# Altium footprint library PROC051C_PCB.PcbLib: 65 footprints (part 4 of 5)
Each footprint in its own frame and in the unit in brackets; x right, y up, seen from the top. Pads: shape width x height; smd on the part's side, far side on the other; paste and mask are expansions set on the pad; w line width, h text height; cw(c..) or ccw(c..) is an arc to the next point about the centre after c.
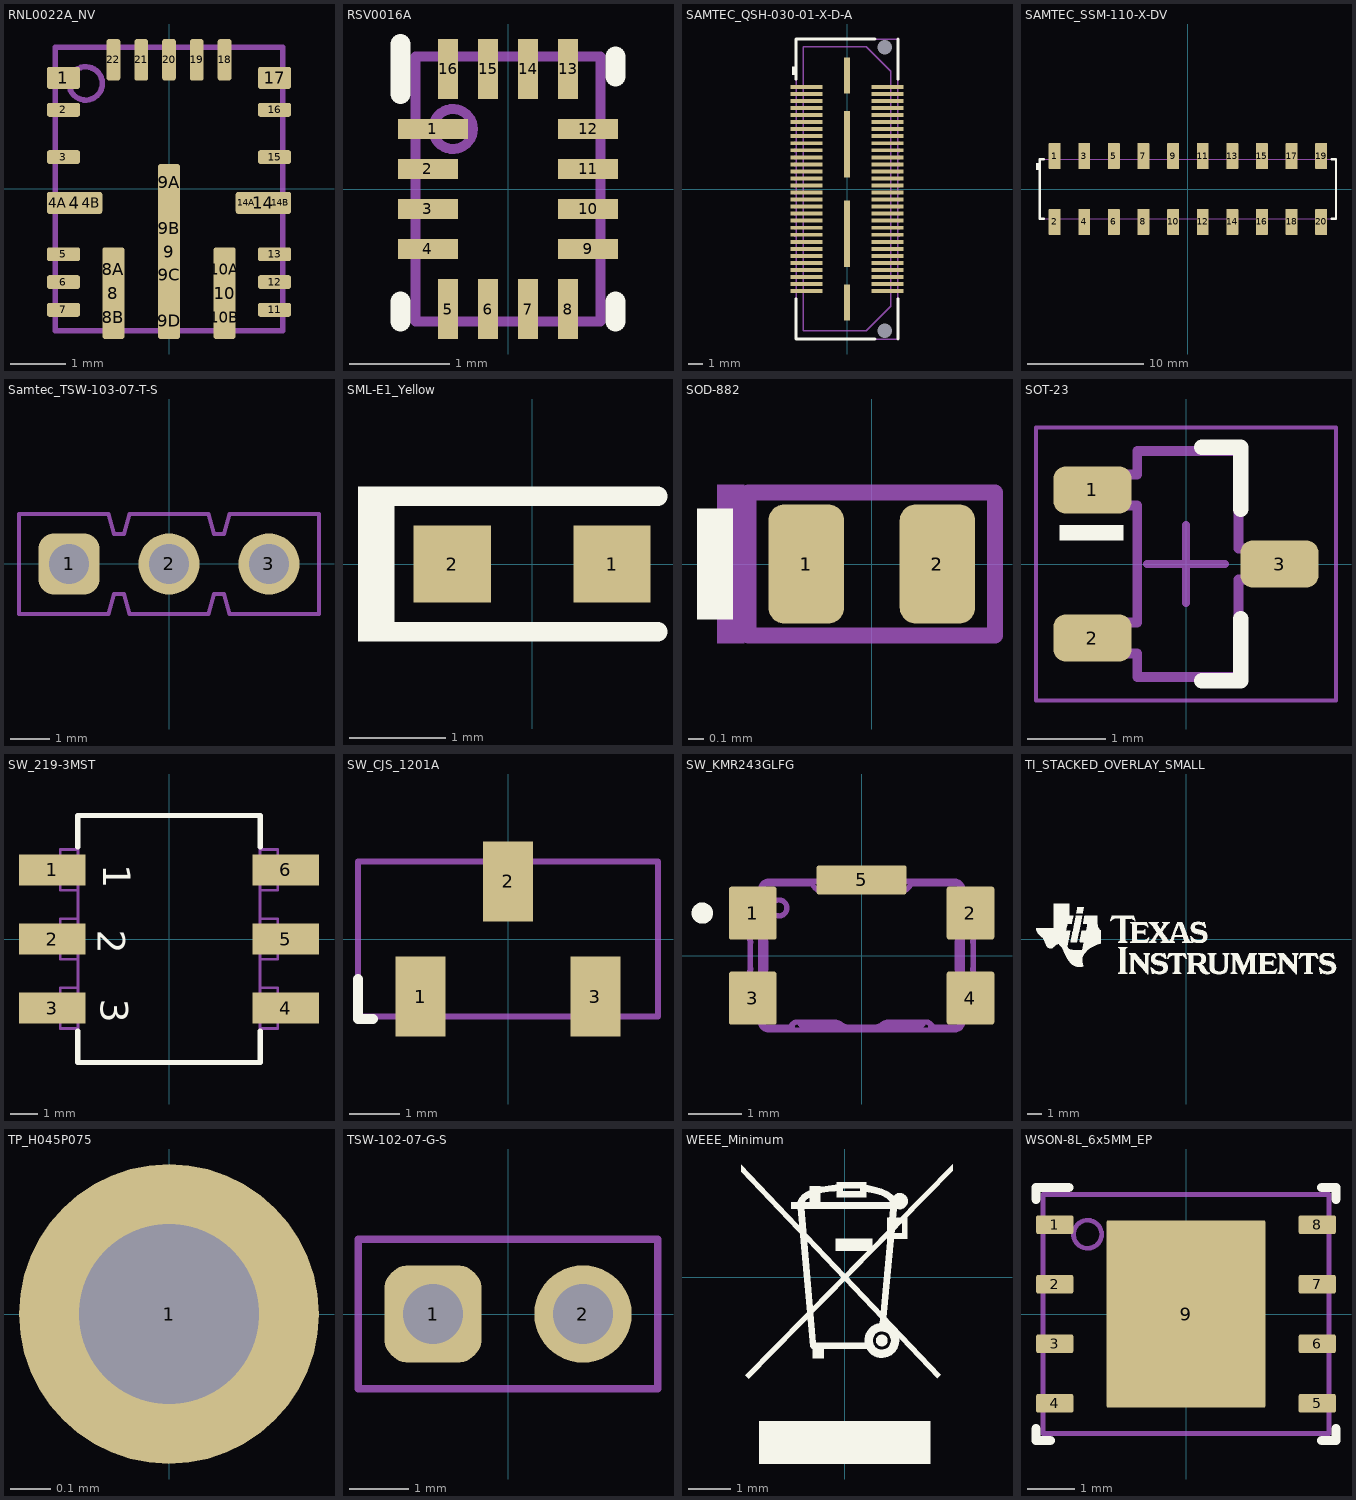
[diagram p3: the footprints below, top view; thin cyan lines are the x and y axes]

## RNL0022A_NV [mm] "VQFN-HR-22"
height 0.9
pads (34):
  rrect25% 0.6x0.4 smd: 1(-1.9,2) 17(1.9,2)
  rrect40% 0.6x0.25 smd: 2(-1.9,1.425) 3(-1.9,0.575) 5(-1.9,-1.175) 6(-1.9,-1.675) 7(-1.9,-2.175) 11(1.9,-2.175) 12(1.9,-1.675) 13(1.9,-1.175) 15(1.9,0.575) 16(1.9,1.425)
  rrect25% 1x0.4 smd paste-0.25: 4(-1.7,-0.25) 14(1.7,-0.25)
  rrect50% 0.4x0.4 on Top Paste: 4A(-2,-0.25) 4B(-1.4,-0.25) 14A(1.4,-0.25) 14B(2,-0.25)
  rrect25% 0.4x1.65 smd paste-0.25: 8(-1,-1.875) 10(1,-1.875)
  rrect50% 0.4x0.66 on Top Paste: 8A(-1,-1.445) 8B(-1,-2.305) 10A(1,-1.445) 10B(1,-2.305)
  rrect25% 0.4x3.15 smd paste-0.25: 9(0,-1.125)
  rrect50% 0.4x0.63 on Top Paste: 9A(0,0.12) 9B(0,-0.71) 9C(0,-1.54) 9D(0,-2.37)
  rrect40% 0.25x0.75 smd: 18(1,2.325) 19(0.5,2.325) 20(0,2.325) 21(-0.5,2.325) 22(-1,2.325)
Mechanical 5:
  circle w0.1: c-1.5,1.9 r0.3
  lines w0.1: -2.05,-2.55 2.05,-2.55 2.05,2.55 -2.05,2.55 -2.05,-2.55
  text ".Designator" at 0.692,0.589 h1.02
3D body "RNL0022A.stp": height 0.9, standoff 0, extent -2,-2.5 2,2.5

## RSV0016A [mm] "QFN, 16-Leads, Body 1.8x2.6mm, Pitch 0.4mm, TI Recommended"
height 0.55
pads (16):
  rect 0.7x0.2 smd: 1(-0.75,0.6)
  rect 0.6x0.2 smd: 2(-0.8,0.2) 3(-0.8,-0.2) 4(-0.8,-0.6) 9(0.8,-0.6) 10(0.8,-0.2) 11(0.8,0.2) 12(0.8,0.6)
  rect 0.2x0.6 smd: 5(-0.6,-1.2) 6(-0.2,-1.2) 7(0.2,-1.2) 8(0.6,-1.2) 13(0.6,1.2) 14(0.2,1.2) 15(-0.2,1.2) 16(-0.6,1.2)
Top Overlay:
  lines w0.2: -1.075,-1.325 -1.075,-1.125 ; -1.075,0.95 -1.075,1.45 ; 1.075,-1.325 1.075,-1.125 ; 1.075,1.125 1.075,1.325
Mechanical 5:
  circle w0.1: c-0.55,0.6 r0.2
  lines w0.1: -0.925,-1.325 0.925,-1.325 0.925,1.325 -0.925,1.325 -0.925,-1.325
  text ".Designator" at 0.559,-0.737 h0.38
3D body: height 0.55, standoff 0, extent -0.925,-1.325 0.925,1.325
3D body: height 0.56, standoff 0.4, extent -0.749,0.401 -0.351,0.799

## SAMTEC_QSH-030-01-X-D-A [mm] "Receptacle, 0.5 mm, 30x2, TH"
height 3.327
pads (66):
  rect 2.27x0.279 smd: 1(-2.865,7.25) 2(2.865,7.25) 3(-2.865,6.75) 4(2.865,6.75) 5(-2.865,6.25) 6(2.865,6.25) 7(-2.865,5.75) 8(2.865,5.75) 9(-2.865,5.25) 10(2.865,5.25) 11(-2.865,4.75) 12(2.865,4.75) 13(-2.865,4.25) 14(2.865,4.25) 15(-2.865,3.75) 16(2.865,3.75) 17(-2.865,3.25) 18(2.865,3.25) 19(-2.865,2.75) 20(2.865,2.75) 21(-2.865,2.25) 22(2.865,2.25) 23(-2.865,1.75) 24(2.865,1.75) 25(-2.865,1.25) 26(2.865,1.25) 27(-2.865,0.75) 28(2.865,0.75) 29(-2.865,0.25) 30(2.865,0.25) 31(-2.865,-0.25) 32(2.865,-0.25) 33(-2.865,-0.75) 34(2.865,-0.75) 35(-2.865,-1.25) 36(2.865,-1.25) 37(-2.865,-1.75) 38(2.865,-1.75) 39(-2.865,-2.25) 40(2.865,-2.25) 41(-2.865,-2.75) 42(2.865,-2.75) 43(-2.865,-3.25) 44(2.865,-3.25) 45(-2.865,-3.75) 46(2.865,-3.75) 47(-2.865,-4.25) 48(2.865,-4.25) 49(-2.865,-4.75) 50(2.865,-4.75) 51(-2.865,-5.25) 52(2.865,-5.25) 53(-2.865,-5.75) 54(2.865,-5.75) 55(-2.865,-6.25) 56(2.865,-6.25) 57(-2.865,-6.75) 58(2.865,-6.75) 59(-2.865,-7.25) 60(2.865,-7.25)
  round 0 hole 1.02 unplated mask+0.127: MH1(2.67,10.065) MH2(2.67,-10.065)
  rect 0.43x2.54 smd: MP1(0,8.065) MP4(0,-8.065)
  rect 0.43x4.7 smd: MP2(0,3.175) MP3(0,-3.175)
Top Overlay:
  rectangle: -3.9,8.1 -3.62,8.7
  lines w0.2: -3.62,-7.789 -3.62,-10.655 2,-10.655 ; -3.62,7.789 -3.62,10.655 2,10.655 ; 3.62,-10.655 3.62,-7.789 ; 3.62,7.789 3.62,10.655
Mechanical 5:
  drawing of 190 lines, arcs and shapes, not listed
  text ".Designator" at 0.464,-0.829 h1.02
3D body "Samtec-QSH-030-01-L-D-A.stp": height 3.25, standoff -0.75, extent -3.746,-10.636 3.747,10.674

## SAMTEC_SSM-110-X-DV [mm] "Receptacle, 2.54mm, 10x2, SMT"
height 7.47
pads (20):
  rrect10% 1.02x2.22 smd: 1(-11.43,2.825) 2(-11.43,-2.825) 3(-8.89,2.825) 4(-8.89,-2.825) 5(-6.35,2.825) 6(-6.35,-2.825) 7(-3.81,2.825) 8(-3.81,-2.825) 9(-1.27,2.825) 10(-1.27,-2.825) 11(1.27,2.825) 12(1.27,-2.825) 13(3.81,2.825) 14(3.81,-2.825) 15(6.35,2.825) 16(6.35,-2.825) 17(8.89,2.825) 18(8.89,-2.825) 19(11.43,2.825) 20(11.43,-2.825)
Top Overlay:
  rectangle: -13.025,1.625 -12.675,2.225
  lines w0.2: -12.34,-2.54 -12.7,-2.54 -12.7,2.54 -12.34,2.54 ; 12.34,-2.54 12.7,-2.54 12.7,2.54 12.34,2.54
Mechanical 5:
  lines w0.1: -11.684,-2.54 -11.684,-3.518 -11.176,-3.518 -11.176,-2.54 ; -11.684,2.54 -11.684,3.518 -11.176,3.518 -11.176,2.54 ; -9.144,-2.54 -9.144,-3.518 -8.636,-3.518 -8.636,-2.54 ; -9.144,2.54 -9.144,3.518 -8.636,3.518 -8.636,2.54 ; -6.604,-2.54 -6.604,-3.518 -6.096,-3.518 -6.096,-2.54 ; -6.604,2.54 -6.604,3.518 -6.096,3.518 -6.096,2.54 ; -4.064,-2.54 -4.064,-3.518 -3.556,-3.518 -3.556,-2.54 ; -4.064,2.54 -4.064,3.518 -3.556,3.518 -3.556,2.54 ; -1.524,-2.54 -1.524,-3.518 -1.016,-3.518 -1.016,-2.54 ; -1.524,2.54 -1.524,3.518 -1.016,3.518 -1.016,2.54 ; 1.016,-2.54 1.016,-3.518 1.524,-3.518 1.524,-2.54 ; 1.016,2.54 1.016,3.518 1.524,3.518 1.524,2.54 ; 3.556,-2.54 3.556,-3.518 4.064,-3.518 4.064,-2.54 ; 3.556,2.54 3.556,3.518 4.064,3.518 4.064,2.54 ; 6.096,-2.54 6.096,-3.518 6.604,-3.518 6.604,-2.54 ; 6.096,2.54 6.096,3.518 6.604,3.518 6.604,2.54 ; 8.636,-2.54 8.636,-3.518 9.144,-3.518 9.144,-2.54 ; 8.636,2.54 8.636,3.518 9.144,3.518 9.144,2.54 ; 11.176,-2.54 11.176,-3.518 11.684,-3.518 11.684,-2.54 ; 11.176,2.54 11.176,3.518 11.684,3.518 11.684,2.54 ; -12.7,-2.54 -12.7,2.54 12.7,2.54 12.7,-2.54 -12.7,-2.54
  text ".Designator" at -0.47,0.14 h1.02
3D body "SSM-110-S-DV.stp": height 7.42, standoff 0, extent -12.7,-3.518 12.7,3.518

## Samtec_TSW-103-07-T-S [mm] "Header, 2.54 mm, 3x1, TH"
height 8.64
pads (3):
  rrect50% 1.55x1.55 hole 1.02: 1(-2.54,0)
  round 1.55 hole 1.02: 2(0,0) 3(2.54,0)
Mechanical 5:
  lines w0.1: -3.81,-1.27 -3.81,1.27 -1.534,1.27 -1.397,0.762 -1.27,0.762 -1.143,0.762 -1.006,1.27 1.006,1.27 1.143,0.762 1.27,0.762 1.397,0.762 1.534,1.27 3.81,1.27 3.81,-1.27 1.534,-1.27 1.397,-0.762 1.27,-0.762 1.143,-0.762 1.006,-1.27 -1.006,-1.27 -1.143,-0.762 -1.27,-0.762 -1.397,-0.762 -1.534,-1.27 -3.81,-1.27
  text ".Designator" at 0.637,0.475 h1.02
3D body "TSW-103-07-T-S.stp": height 8.39, standoff -2.53, extent -3.81,-1.27 3.81,1.27

## SML-E1_Yellow [mm] "SMD, 2-Leads, Body 1.6x0.8mm"
height 0.46
pads (2):
  rect 0.8x0.8 smd: 1(0.825,0) 2(-0.825,0)
Top Overlay:
  rectangle: -1.8,-0.8 -1.525,0.8
  lines w0.2: 1.3,-0.7 -1.525,-0.7 -1.525,0.7 1.3,0.7
Mechanical 5:
  rectangle: -1.8,-0.75 -1.525,0.75
  lines w0.1: 1.3,-0.7 -1.525,-0.7 -1.525,0.7 1.3,0.7
  text ".Designator" at -1,-0.2 h0.51
3D body: height 0.13, standoff 0, extent -0.85,-0.45 0.85,0.45
3D body: height 0.46, standoff 0.13, extent -0.5,-0.45 0.5,0.45
3D body: height 0, standoff -0.01, extent -0.2,-0.2 0.2,0.2

## SOD-882 [mm] "Skyworks"
height 0.5
pads (4):
  rrect42% 0.475x0.75 smd mask-3: 1(-0.412,0) 2(0.412,0)
  rrect50% 0.475x0.75 on Top Solder mask-3: 1(-0.412,0) 2(0.412,0)
Top Overlay:
  rectangle: -1.1,-0.35 -0.875,0.35
Mechanical 5:
  rectangle: -0.975,-0.5 -0.8,0.5
  lines w0.1: -0.775,-0.45 0.775,-0.45 0.775,0.45 -0.775,0.45 -0.775,-0.45
  text ".Designator" at -0.575,-0.15 h0.3
3D body: height 0.5, standoff 0, extent -0.5,-0.3 0.5,0.3
3D body: height 0.5, standoff 0.5, extent -0.406,-0.2 -0.3,0.2

## SOT-23 [mm] "SOT23, 3-Leads, Body 2.9x1.3mm, Pitch 0.95mm, Lead Span 2.5mm, IPC Medium Density"
height 1.1
pads (3):
  rrect50% 1x0.6 smd: 1(-1.2,0.95) 2(-1.2,-0.95) 3(1.2,0)
Top Overlay:
  rectangle: -1.625,0.3 -0.8,0.5
  lines w0.2: 0.2,-1.5 0.7,-1.5 0.7,-0.7 ; 0.2,1.5 0.7,1.5 0.7,0.7
Mechanical 5:
  lines w0.127: -1.16,-1.15 -1.16,-0.75 -0.625,-0.75 -0.625,0.75 -1.16,0.75 -1.16,1.15 -0.625,1.15 -0.625,1.45 0.675,1.45 0.675,0.2 1.21,0.2 1.21,-0.2 0.675,-0.2 0.675,-1.45 -0.625,-1.45 -0.625,-1.15 -1.16,-1.15
  text ".Designator" at -0.321,0.529 h0.64
Mechanical 15:
  lines w0.05: -1.925,-1.75 1.925,-1.75 1.925,1.75 -1.925,1.75 -1.925,-1.75
  lines w0.1: -0.5,0 0.5,0 ; 0,-0.5 0,0.5
3D body "SW3dPS-sot-3p290x130ll237h100.STEP": height 1, standoff 0, extent -1.16,-1.45 1.21,1.45

## SW_219-3MST [mm] "SMD, 6-Leads, Body 6.7x9.09mm, Pitch 2.54mm"
height 4.23
pads (6):
  rect 2.44x1.13 smd: 1(-4.3,2.54) 2(-4.3,0) 3(-4.3,-2.54) 4(4.3,-2.54) 5(4.3,0) 6(4.3,2.54)
Top Overlay:
  lines w0.2: -3.35,-3.4 -3.35,-4.545 3.35,-4.545 3.35,-3.4 ; -3.35,3.4 -3.35,4.545 3.35,4.545 3.35,3.4
  text "3" at -2.504,-2.204 h1.02
  text "2" at -2.63,0.336 h1.02
  text "1" at -2.422,2.758 h1.02
Mechanical 5:
  lines w0.1: -4,-2.815 -4.955,-2.815 -4.955,-2.265 -4,-2.265 ; -4,-0.275 -4.955,-0.275 -4.955,0.275 -4,0.275 ; -4,2.265 -4.955,2.265 -4.955,2.815 -4,2.815 ; -3.35,-3.29 -3.8,-3.29 -4,-3.29 -4,-1.79 -3.8,-1.79 -3.35,-1.79 ; -3.35,-0.75 -3.8,-0.75 -4,-0.75 -4,0.75 -3.8,0.75 -3.35,0.75 ; -3.35,1.79 -3.8,1.79 -4,1.79 -4,3.29 -3.8,3.29 -3.35,3.29 ; 3.35,-3.29 3.8,-3.29 4,-3.29 4,-1.79 3.8,-1.79 3.35,-1.79 ; 3.35,-0.75 3.8,-0.75 4,-0.75 4,0.75 3.8,0.75 3.35,0.75 ; 3.35,1.79 3.8,1.79 4,1.79 4,3.29 3.8,3.29 3.35,3.29 ; 4,-2.815 4.955,-2.815 4.955,-2.265 4,-2.265 ; 4,-0.275 4.955,-0.275 4.955,0.275 4,0.275 ; 4,2.265 4.955,2.265 4.955,2.815 4,2.815 ; -3.35,-4.545 3.35,-4.545 3.35,-3.545 3.35,4.545 -3.35,4.545 -3.35,-4.545
  text "1" at -2.422,2.758 h1.02
  text "2" at -2.63,0.336 h1.02
  text "3" at -2.504,-2.204 h1.02
  text ".Designator" at -0.52,1.29 h1.85
3D body: height 4.3, standoff 0, extent -4.955,-4.545 4.955,4.545

## SW_CJS_1201A [mm] "Copal- Electronics"
height 2.5
pads (3):
  rect 1x1.6 smd paste+0 mask+0.05: 1(-1.75,-1.15) 2(0,1.15) 3(1.75,-1.15)
Top Overlay:
  lines w0.2: -3,-0.8 -3,-1.6 -2.7,-1.6
Mechanical 5:
  lines w0.127: -3,-1.55 3,-1.55 3,1.55 -3,1.55 -3,-1.55
  text ".Designator" at -2.25,-0.25 h1.02
3D body: height 2.51, standoff 1, extent -1.5,-0.5 1.5,0.5
3D body: height 2.5, standoff 0, extent -2.999,-1.549 2.999,1.549

## SW_KMR243GLFG [mm] "SMD, 5-Leads, Body 4.2x2.8mm"
height 1.9
pads (5):
  rrect11% 0.9x1 smd: 1(-2.05,0.8) 2(2.05,0.8) 3(-2.05,-0.8) 4(2.05,-0.8)
  rrect18% 1.7x0.55 smd: 5(0,1.425)
Top Overlay:
  circle w0.2: c-3,0.8 r0.1
Mechanical 5:
  drawing of 4459 lines, arcs and shapes, not listed
  text ".Designator" at 0.855,0.117 h1
3D body: height 1.92, standoff -0.02, extent -2.3,-1.4 2.3,1.4

## TI_STACKED_OVERLAY_SMALL [mm]
height 0.6
Top Overlay:
  drawing of 18 lines, arcs and shapes, not listed

## TP_H045P075 [mm] "TP_H0.45P0.75"
pads (1):
  round 0.75 hole 0.45: 1(0,0)

## TSW-102-07-G-S [mm] "Samtec 100mil, 1x2, 230 mil above insulator"
height 8.382
pads (2):
  rrect50% 1.65x1.65 hole 1.016: 1(-1.27,0)
  round 1.65 hole 1.016: 2(1.27,0)
Mechanical 5:
  lines w0.127: -2.54,-1.27 -2.54,1.27 2.54,1.27 2.54,-1.27 -2.54,-1.27
  text ".Designator" at 0.701,0.626 h1.02
3D body "SamtecTSW-07_2x1.stp": height 8.38, standoff -2.54, extent -2.54,-1.27 2.54,1.27

## WEEE_Minimum [mm] "WEEElie bin"
Top Overlay:
  drawing of 23 lines, arcs and shapes, not listed

## WSON-8L_6x5MM_EP [mm] "SMD, 8-Leads, Body 6x5mm, Pitch 1.27mm"
height 0.8
pads (13):
  rrect25% 0.8x0.4 smd: 1(-2.8,1.905) 2(-2.8,0.635) 3(-2.8,-0.635) 4(-2.8,-1.905) 5(2.8,-1.905) 6(2.8,-0.635) 7(2.8,0.635) 8(2.8,1.905)
  rrect3% 3.4x4 smd paste-3: 9(0,0)
  rrect50% 1.468x1.698 on Top Paste: ""(-0.834,-0.949) ""(-0.834,0.949) ""(0.834,-0.949) ""(0.834,0.949)
Top Overlay:
  lines w0.2: -3.2,-2.45 -3.2,-2.7 -2.9,-2.7 ; -3.2,2.45 -3.2,2.7 -2.5,2.7 ; 2.9,-2.7 3.2,-2.7 3.2,-2.45 ; 2.9,2.7 3.2,2.7 3.2,2.45
Mechanical 5:
  circle w0.1: c-2.1,1.7 r0.3
  lines w0.1: -3.05,-2.55 3.05,-2.55 3.05,2.55 -3.05,2.55 -3.05,-2.55
  text ".Designator" at -1,-0.2 h0.6
3D body: height 0.8, standoff 0, extent -3.05,-2.55 3.05,2.55
3D body: height 0.8, standoff 0.5, extent -2.399,1.401 -1.8,2